# EAGLE library part IRIDIUM-9523 (library Iridium-9523)
Molex 53885-0408 Iridium 9523 pinout
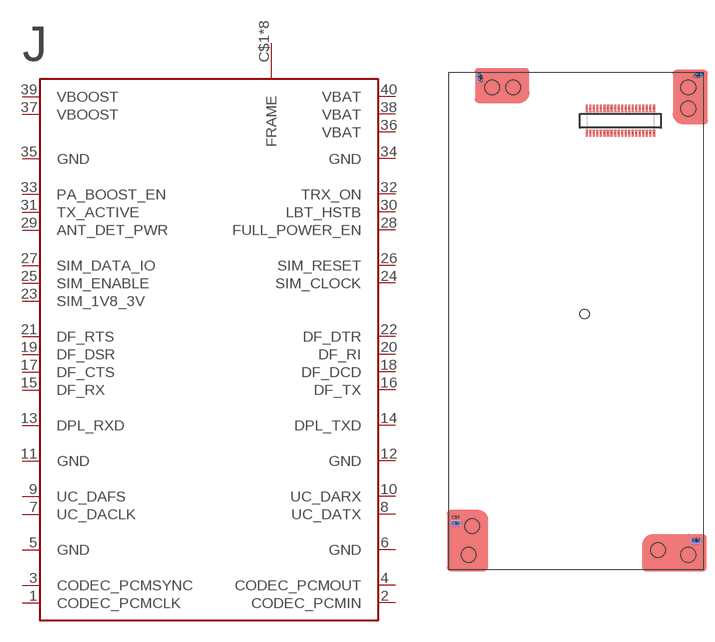
[diagram p1: symbol with the pads of IRIDIUM-9523; footprint IRIDIUM-9523]

Designator prefix J

## IRIDIUM-9523DEFAULT  [IRIDIUM-9523]
1  CODEC_PCMCLK
2  CODEC_PCMIN
3  CODEC_PCMSYNC
4  CODEC_PCMOUT
5  GND
6  GND
7  UC_DACLK
8  UC_DATX
9  UC_DAFS
10  UC_DARX
11  GND
12  GND
13  DPL_RXD
14  DPL_TXD
15  DF_RX
16  DF_TX
17  DF_CTS
18  DF_DCD
19  DF_DSR
20  DF_RI
21  DF_RTS
22  DF_DTR
23  SIM_1V8_3V
24  SIM_CLOCK
25  SIM_ENABLE
26  SIM_RESET
27  SIM_DATA_IO
28  FULL_POWER_EN
29  ANT_DET_PWR
30  LBT_HSTB
31  TX_ACTIVE
32  TRX_ON
33  PA_BOOST_EN
34  GND
35  GND
36  VBAT
37  VBOOST
38  VBAT
39  VBOOST
40  VBAT
C$1  FRAME
C$2  FRAME
C$3  FRAME
C$4  FRAME
C$5  FRAME
C$6  FRAME
C$7  FRAME
C$8  FRAME

## Footprint IRIDIUM-9523 (pad centres in mm)
Molex 53885-0408
smd 0.3 x 1: 1 -4.75,1.75; 2 -4.75,-1.75; 3 -4.25,1.75; 4 -4.25,-1.75; 5 -3.75,1.75; 6 -3.75,-1.75; 7 -3.25,1.75; 8 -3.25,-1.75; 9 -2.75,1.75; 10 -2.75,-1.75; 11 -2.25,1.75; 12 -2.25,-1.75; 13 -1.75,1.75; 14 -1.75,-1.75; 15 -1.25,1.75; 16 -1.25,-1.75; 17 -0.75,1.75; 18 -0.75,-1.75; 19 -0.25,1.75; 20 -0.25,-1.75; 21 0.25,1.75; 22 0.25,-1.75; 23 0.75,1.75; 24 0.75,-1.75; 25 1.25,1.75; 26 1.25,-1.75; 27 1.75,1.75; 28 1.75,-1.75; 29 2.25,1.75; 30 2.25,-1.75; 31 2.75,1.75; 32 2.75,-1.75; 33 3.25,1.75; 34 3.25,-1.75; 35 3.75,1.75; 36 3.75,-1.75; 37 4.25,1.75; 38 4.25,-1.75; 39 4.75,1.75; 40 4.75,-1.75
smd 1.27 x 0.635: C$1 10.889,6.294; C$5 -23.317,-56.109; C$7 10.719,-59.284
smd 1.27 x 0.635 bottom: C$2 11.123,6.551; C$6 -23.292,-56.972; C$8 10.693,-59.487
smd 0.635 x 1.27 bottom: C$3 -19.936,6.22
smd 0.635 x 1.27: C$4 -19.68,5.987
hole 2.08 at -18.18,4.73
hole 2.1 at 9.62,1.73
hole 2.1 at -20.98,-57.37
hole 2.1 at 5.32,-60.77
hole 2.1 at -15.18,4.73
hole 2.1 at 9.62,4.73
hole 2.1 at -21.48,-61.47
hole 2.1 at 9.62,-61.47
hole 1.3 at -5.08,-27.37
hole 2.08 at -18.18,4.73
hole 2.1 at 9.62,1.73
hole 2.1 at -20.98,-57.37
hole 2.1 at 5.32,-60.77
hole 2.1 at -15.18,4.73
hole 2.1 at 9.62,4.73
hole 2.1 at -21.48,-61.47